# Altium schematic symbol library R305FS.SchLib: 1 symbol
Pins are listed as number, name and electrical type; pins without a type are passive.

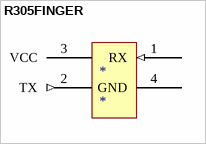
[diagram p0: symbol R305FINGER]

## R305FINGER
designator *
pins: 1 RX (in), 2 TX (out), 3 VCC (power), 4 GND